# Altium footprint library M2FS FLS Data Formatter 8_14_2012.PcbLib: 27 footprints (part 1 of 2)
Each footprint in its own frame and in the unit in brackets; x right, y up, seen from the top. Pads: shape width x height; smd on the part's side, far side on the other; paste and mask are expansions set on the pad; w line width, h text height; cw(c..) or ccw(c..) is an arc to the next point about the centre after c.
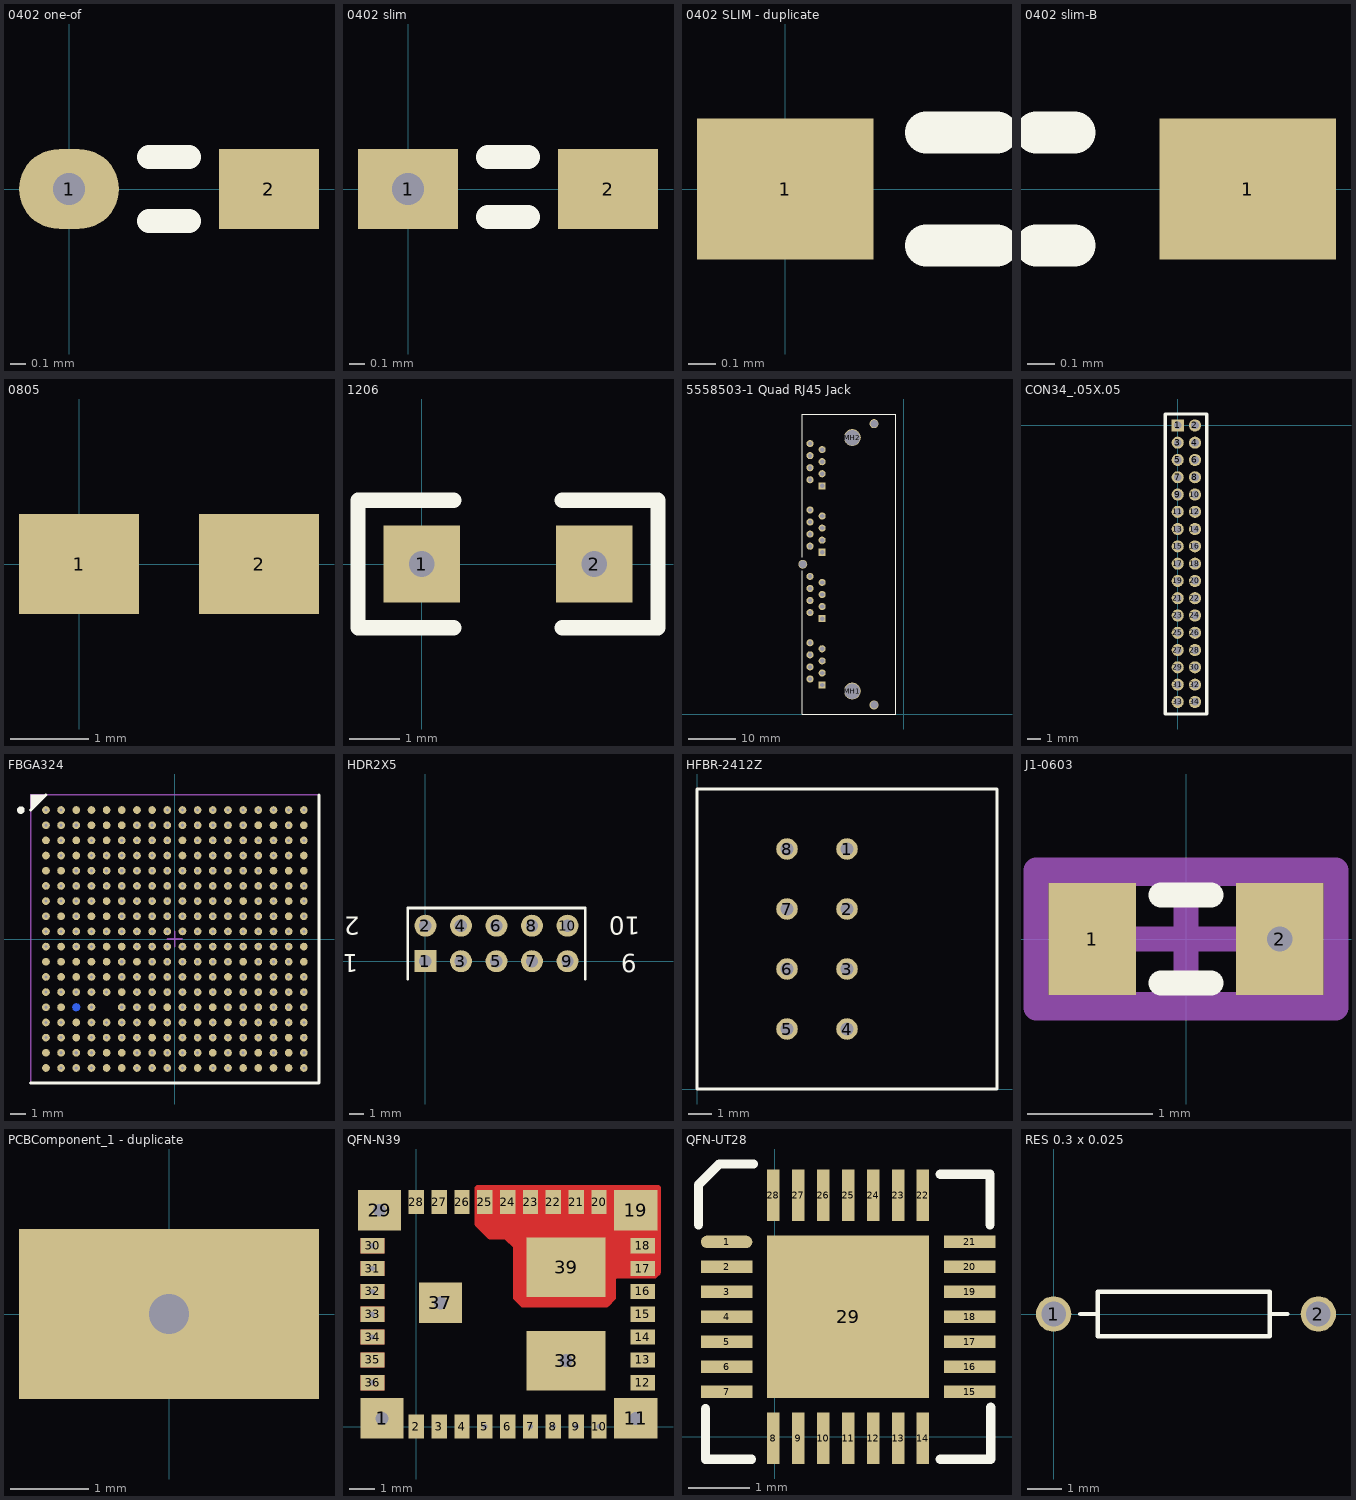
[diagram p0: the footprints below, top view; thin cyan lines are the x and y axes]

## 0402 one-of [mil]
height 66.93
pads (2):
  rrect100% 25x20 / inner round 20 / far side rrect100% 20x20 hole 8: 1(0,0)
  rect 25x20 smd: 2(50,0)
Top Overlay:
  lines w6: 20,-8 30,-8 ; 20,8 30,8

## 0402 slim [mil]
height 2
pads (2):
  rect 25x20 hole 8: 1(0,0)
  rect 25x20 smd: 2(50,0)
Top Overlay:
  lines w6: 20,-7 30,-7 ; 20,8 30,8

## 0402 SLIM - duplicate [mil]
pads (1):
  rect 25x20 smd: 1(0,0)
Top Overlay:
  lines w6: 20,-8 30,-8 ; 20,8 30,8

## 0402 slim-B [mil] "reversed pads"
height 78.74
pads (1):
  rect 25x20 smd: 1(50,0)
Top Overlay:
  lines w6: 20,-8 25.46,-8 ; 20,8 25.46,8

## 0805 [mil]
pads (2):
  rect 60x50 smd: 1(0,0) 2(90,0)

## 1206 [mil]
pads (2):
  rect 60x60 hole 20: 1(0,0) 2(135,0)
Top Overlay:
  lines w12: 25,-50 -50,-50 -50,50 25,50 ; 110,-50 185,-50 185,50 110,50

## 5558503-1 Quad RJ45 Jack [mm]
height 13.64
pads (37):
  rect 1.5x1.5 hole 0.9: A1(-17.145,6.096) B1(-17.145,20.066) C1(-17.145,34.036) D1(-17.145,48.006)
  round 1.5 hole 0.9: A2(-19.685,7.366) A3(-17.145,8.636) A4(-19.685,9.906) A5(-17.145,11.176) A6(-19.685,12.446) A7(-17.145,13.716) A8(-19.685,14.986) B2(-19.685,21.336) B3(-17.145,22.606) B4(-19.685,23.876) B5(-17.145,25.146) B6(-19.685,26.416) B7(-17.145,27.686) B8(-19.685,28.956) C2(-19.685,35.306) C3(-17.145,36.576) C4(-19.685,37.846) C5(-17.145,39.116) C6(-19.685,40.386) C7(-17.145,41.656) C8(-19.685,42.926) D2(-19.685,49.276) D3(-17.145,50.546) D4(-19.685,51.816) D5(-17.145,53.086) D6(-19.685,54.356) D7(-17.145,55.626) D8(-19.685,56.896)
  round 3.556 hole 3.251 unplated: MH1(-10.795,4.826) MH2(-10.795,58.166)
  round 1.88 hole 1.575: MH3(-6.223,1.905) MH4(-6.223,61.087) MH5(-21.209,31.496)
Top Overlay:
  lines w0.2: -21.336,30.099 -21.336,0 -1.676,0 -1.676,63.119 -7.075,63.119 -9.621,63.119 -14.206,63.119 -17.26,63.119 -21.336,63.119 -21.336,33.02

## CON34_.05X.05 [mil]
height 375
pads (34):
  rect 35x35 hole 22: 1(0,0)
  round 35 hole 22: 2(50,0) 3(0,-50) 4(50,-50) 5(0,-100) 6(50,-100) 7(0,-150) 8(50,-150) 9(0,-200) 10(50,-200) 11(0,-250) 12(50,-250) 13(0,-300) 14(50,-300) 15(0,-350) 16(50,-350) 17(0,-400) 18(50,-400) 19(0,-450) 20(50,-450) 21(0,-500) 22(50,-500) 23(0,-550) 24(50,-550) 25(0,-600) 26(50,-600) 27(0,-650) 28(50,-650) 29(0,-700) 30(50,-700) 31(0,-750) 32(50,-750) 33(0,-800) 34(50,-800)
Top Overlay:
  lines w10: -36,-835 -36,33 84,33 84,-835 ; -35,-835 83,-835

## FBGA324 [mil] "BGA, 324-Leads, Body 19x19mm, Pitch 1mm"
height 86.61
pads (324):
  round 20 / inner round 20 / far side round 19.68 hole 8: A1(-334.65,334.65) A2(-295.28,334.65) B10(19.69,295.28) B17(295.28,295.28) C4(-216.54,255.91) C6(-137.8,255.91) C8(-59.05,255.91) C11(59.06,255.91) C12(98.43,255.91) C13(137.8,255.91) C15(216.54,255.91) E3(-255.91,177.17) E11(59.06,177.17) F1(-334.65,137.8) F2(-295.28,137.8) F3(-255.91,137.8) F7(-98.43,137.8) F13(137.8,137.8) G3(-255.91,98.43) G6(-137.8,98.43) G16(255.91,98.43) H3(-255.91,59.06) H6(-137.8,59.06) H8(-59.05,59.06) H15(216.54,59.06) H18(334.65,59.06) J3(-255.91,19.69) J13(137.8,19.69) J14(177.17,19.69) J16(255.91,19.69) J17(295.28,19.69) J18(334.65,19.69) K3(-255.91,-19.68) K13(137.8,-19.68) N3(-255.91,-137.8) N8(-59.05,-137.8) N12(98.43,-137.8) N16(255.91,-137.8) N17(295.28,-137.8) N18(334.65,-137.8) P13(137.8,-177.17) P16(255.91,-177.17) R1(-334.65,-216.54) R5(-177.17,-216.54) R16(255.91,-216.54) R17(295.28,-216.54) R18(334.65,-216.54) T1(-334.65,-255.91) T5(-177.17,-255.91) T6(-137.8,-255.91) T7(-98.43,-255.91) T9(-19.68,-255.91) T10(19.69,-255.91) T11(59.06,-255.91) T12(98.43,-255.91) T14(177.17,-255.91) T15(216.54,-255.91) T16(255.91,-255.91) U2(-295.28,-295.28) U9(-19.68,-295.28) U10(19.69,-295.28) U16(255.91,-295.28) U18(334.65,-295.28) V2(-295.28,-334.65) V10(19.69,-334.65) V12(98.43,-334.65) V18(334.65,-334.65)
  round 20 smd: A3(-255.91,334.65) A4(-216.54,334.65) A5(-177.17,334.65) A6(-137.8,334.65) A7(-98.43,334.65) A8(-59.05,334.65) B4(-216.54,295.28) B5(-177.17,295.28) B6(-137.8,295.28) B15(216.54,295.28) B16(255.91,295.28) B18(334.65,295.28) C1(-334.65,255.91) C3(-255.91,255.91) C5(-177.17,255.91) C10(19.69,255.91) D1(-334.65,216.54) D3(-255.91,216.54) D10(19.69,216.54) D18(334.65,216.54) E1(-334.65,177.17) E2(-295.28,177.17) E16(255.91,177.17) E17(295.28,177.17) E18(334.65,177.17) G5(-177.17,98.43) G14(177.17,98.43) G17(295.28,98.43) H2(-295.28,59.06) H4(-216.54,59.06) H17(295.28,59.06) K5(-177.17,-19.68) K6(-137.8,-19.68) K18(334.65,-19.68) L1(-334.65,-59.06) L2(-295.28,-59.06) L3(-255.91,-59.06) L4(-216.54,-59.06) L5(-177.17,-59.06) L7(-98.43,-59.06) L14(177.17,-59.06) L18(334.65,-59.06) M2(-295.28,-98.43) M3(-255.91,-98.43) M5(-177.17,-98.43) M13(137.8,-98.43) N6(-137.8,-137.8) P2(-295.28,-177.17) P12(98.43,-177.17) R3(-255.91,-216.54) R8(-59.05,-216.54) R11(59.06,-216.54) R13(137.8,-216.54) T3(-255.91,-255.91) T8(-59.05,-255.91) T17(295.28,-255.91) U1(-334.65,-295.28) U5(-177.17,-295.28) U6(-137.8,-295.28) U12(98.43,-295.28) U15(216.54,-295.28) U17(295.28,-295.28) V1(-334.65,-334.65) V5(-177.17,-334.65) V6(-137.8,-334.65) V11(59.06,-334.65) V14(177.17,-334.65) V15(216.54,-334.65) V16(255.91,-334.65)
  round 20 hole 8: A9(-19.68,334.65) A10(19.69,334.65) A11(59.06,334.65) A12(98.43,334.65) A13(137.8,334.65) A14(177.17,334.65) A15(216.54,334.65) A16(255.91,334.65) A17(295.28,334.65) A18(334.65,334.65) B1(-334.65,295.28) B2(-295.28,295.28) B3(-255.91,295.28) B7(-98.43,295.28) B8(-59.05,295.28) B9(-19.68,295.28) B11(59.06,295.28) B12(98.43,295.28) B13(137.8,295.28) B14(177.17,295.28) C2(-295.28,255.91) C7(-98.43,255.91) C9(-19.68,255.91) C14(177.17,255.91) C16(255.91,255.91) C17(295.28,255.91) C18(334.65,255.91) D2(-295.28,216.54) D5(-177.17,216.54) D7(-98.43,216.54) D9(-19.68,216.54) D12(98.43,216.54) D14(177.17,216.54) D16(255.91,216.54) E4(-216.54,177.17) E5(-177.17,177.17) E6(-137.8,177.17) E7(-98.43,177.17) E8(-59.05,177.17) E9(-19.68,177.17) E10(19.69,177.17) E12(98.43,177.17) E13(137.8,177.17) E14(177.17,177.17) F5(-177.17,137.8) F8(-59.05,137.8) F9(-19.68,137.8) F11(59.06,137.8) F12(98.43,137.8) F15(216.54,137.8) F16(255.91,137.8) F17(295.28,137.8) F18(334.65,137.8) G1(-334.65,98.43) G2(-295.28,98.43) G9(-19.68,98.43) G12(98.43,98.43) G13(137.8,98.43) G15(216.54,98.43) H1(-334.65,59.06) H9(-19.68,59.06) H10(19.69,59.06) H11(59.06,59.06) H12(98.43,59.06) H13(137.8,59.06) H16(255.91,59.06) J1(-334.65,19.69) J2(-295.28,19.69) J5(-177.17,19.69) J6(-137.8,19.69) J8(-59.05,19.69) J9(-19.68,19.69) J10(19.69,19.69) J11(59.06,19.69) J15(216.54,19.69) K1(-334.65,-19.68) K8(-59.05,-19.68) K9(-19.68,-19.68) K10(19.69,-19.68) K11(59.06,-19.68) K15(216.54,-19.68) K16(255.91,-19.68) L6(-137.8,-59.06) L8(-59.05,-59.06) L9(-19.68,-59.06) L10(19.69,-59.06) L11(59.06,-59.06) L16(255.91,-59.06) M1(-334.65,-98.43) M7(-98.43,-98.43) M10(19.69,-98.43) M14(177.17,-98.43) M15(216.54,-98.43) M17(295.28,-98.43) N1(-334.65,-137.8) N2(-295.28,-137.8) N7(-98.43,-137.8) N10(19.69,-137.8) N11(59.06,-137.8) N13(137.8,-137.8) N14(177.17,-137.8) N15(216.54,-137.8) P1(-334.65,-177.17) P4(-216.54,-177.17) P6(-137.8,-177.17) P7(-98.43,-177.17) P8(-59.05,-177.17) P10(19.69,-177.17) P14(177.17,-177.17) P15(216.54,-177.17) P17(295.28,-177.17) P18(334.65,-177.17) R2(-295.28,-216.54) R4(-216.54,-216.54) R15(216.54,-216.54) T4(-216.54,-255.91) T18(334.65,-255.91) U3(-255.91,-295.28) U4(-216.54,-295.28) U7(-98.43,-295.28) U8(-59.05,-295.28) V3(-255.91,-334.65) V4(-216.54,-334.65) V7(-98.43,-334.65) V8(-59.05,-334.65) V9(-19.68,-334.65) V13(137.8,-334.65)
  round 20 / inner round 20 / far side rect 20x25 hole 8: D4(-216.54,216.54) D6(-137.8,216.54) D8(-59.05,216.54) D11(59.06,216.54) D13(137.8,216.54) D15(216.54,216.54) M6(-137.8,-98.43) M8(-59.05,-98.43) M12(98.43,-98.43) R6(-137.8,-216.54) R7(-98.43,-216.54) R9(-19.68,-216.54) R10(19.69,-216.54) R12(98.43,-216.54)
  round 20 / inner round 19.68 / far side rect 25x20 hole 8: D17(295.28,216.54) E15(216.54,177.17) F14(177.17,137.8) G18(334.65,98.43) H14(177.17,59.06) K17(295.28,-19.68) L15(216.54,-59.06) P11(59.06,-177.17)
  round 20 / inner round 20 / far side rect 25x20 hole 8: F4(-216.54,137.8) F6(-137.8,137.8) G4(-216.54,98.43) G7(-98.43,98.43) G10(19.69,98.43) H7(-98.43,59.06) J4(-216.54,19.69) J7(-98.43,19.69) J12(98.43,19.69) K4(-216.54,-19.68) K7(-98.43,-19.68) K12(98.43,-19.68) L12(98.43,-59.06) M4(-216.54,-98.43) M11(59.06,-98.43) N4(-216.54,-137.8) N9(-19.68,-137.8) R14(177.17,-216.54) T2(-295.28,-255.91) T13(137.8,-255.91)
  round 20 / inner round 20 / far side rect 20x20 hole 8: F10(19.69,137.8)
  round 20 / inner round 20 / far side round 0 hole 8: G8(-59.05,98.43) M9(-19.68,-98.43) M16(255.91,-98.43)
  round 20 / inner round 20 / far side rect 20x22 hole 8: G11(59.06,98.43)
  round 20 all layers, no hole: H5(-177.17,59.06) K2(-295.28,-19.68) V17(295.28,-334.65)
  round 20 / inner round 19.68 / far side round 20 hole 8: K14(177.17,-19.68)
  round 20 / inner round 19.68 / far side rect 20x25 hole 8: L13(137.8,-59.06) N5(-177.17,-137.8) U11(59.06,-295.28) U13(137.8,-295.28) U14(177.17,-295.28)
  round 20 / inner round 20 / far side rect 25x19 hole 8: L17(295.28,-59.06)
  round 20 / inner round 20 / far side round 18 hole 8: M18(334.65,-98.43)
  round 20 smd far side: P3(-255.91,-177.17)
  round 20 on Top Paste: P5(-177.17,-177.17)
  round 20 smd mask-10: P9(-19.68,-177.17)
Top Overlay:
  circle w9.84: c-399.61,334.65 r4.92
  region: -334.65,374.02 -374.02,334.65 -374.02,374.02
  lines w7.87: -374.02,-374.02 374.02,-374.02 374.02,374.02 ; -374.02,334.65 -334.65,374.02
Mechanical 13:
  lines w3.94: -374.02,-374.02 374.02,-374.02 374.02,374.02 -374.02,374.02 -374.02,-374.02
Mechanical 15:
  lines w3.94: -19.68,0 19.69,0 ; 0,-19.68 0,19.69
3D body: height 86.61, standoff 0, extent -376.03,-376.35 372,371.69

## HDR2X5 [mil]
pads (10):
  rect 62x62 hole 35: 1(0,0)
  round 62 hole 35: 2(0,100) 3(100,0) 4(100,100) 5(200,0) 6(200,100) 7(300,0) 8(300,100) 9(400,0) 10(400,100)
Top Overlay:
  lines w8: -50,-50 -50,150 450,150 450,-50
  text "2" at -185,125 h50
  text "1" at -190,20 h50
  text "9" at 595,20 h50
  text "10" at 605,125 h50

## HFBR-2412Z [mil] "Fiber Receiver"
height 500
pads (8):
  round 36 hole 22: 1(250,400) 2(250,300) 3(250,200) 4(250,100) 5(150,100) 6(150,200) 7(150,300) 8(150,400)
Top Overlay:
  lines w5: 0,0 0,500 500,500 500,0 0,0
Bottom Overlay:
  text "GND" at 195,320 h15
  text "DATA" at 195,225 h15
  text "GND" at 295,220 h15
  text "VCC" at 295,315 h15

## J1-0603 [mm] "Chip Resistor, Body 1.6x0.8mm, IPC High Density"
height 0.9
pads (2):
  rect 0.7x0.9 smd: 1(-0.75,0)
  rect 0.7x0.9 hole 0.203: 2(0.75,0)
Top Overlay:
  lines w0.2: -0.2,-0.35 0.2,-0.35 ; -0.2,0.35 0.2,0.35
Mechanical 13:
  lines w0.1: -0.85,-0.475 0.85,-0.475 0.85,0.475 -0.85,0.475 -0.85,-0.475
Mechanical 15:
  lines w0.203: -0.475,0 0.475,0 ; 0,-0.475 0,0.475 ; -1.2,-0.55 1.2,-0.55 1.2,0.55 -1.2,0.55 -1.2,-0.55
3D body: height 0.9, standoff 0, extent -0.85,-0.475 0.85,0.475

## PCBComponent_1 - duplicate [mil]
pads (1):
  rect 150x85 hole 20: ""(0,0)

## QFN-N39 [mm] "TI TPS84410 Voltage Regulator"
height 2
pads (39):
  rect 1.7x1.6 hole 0.508: 1(-1.35,0.325) 11(8.65,0.325) 29(-1.45,8.525) 37(0.95,4.875)
  rect 0.6x0.95 smd: 2(0,0) 3(0.9,0) 4(1.8,0) 6(3.6,0) 20(7.2,8.85) 21(6.3,8.85) 22(5.4,8.85) 23(4.5,8.85) 24(3.6,8.85) 25(2.7,8.85) 26(1.8,8.85) 27(0.9,8.85) 28(0,8.85)
  rect 0.6x0.95 hole 0.203: 5(2.7,0) 7(4.5,0) 8(5.4,0) 9(6.3,0) 10(7.2,0)
  rect 0.95x0.6 smd: 12(8.925,1.725) 13(8.925,2.625) 14(8.925,3.525) 15(8.925,4.425) 16(8.925,5.325) 17(8.925,6.225) 18(8.925,7.125) 35(-1.725,2.625)
  rect 1.7x1.6 smd: 19(8.65,8.525)
  rect 0.95x0.6 hole 0.203: 30(-1.725,7.125) 31(-1.725,6.225) 32(-1.725,5.325) 33(-1.725,4.425) 34(-1.725,3.525) 36(-1.725,1.725)
  rect 3.1x2.35 hole 0.508: 38(5.9,2.6)
  rect 3.1x2.35 smd: 39(5.9,6.275)
Top Layer:
  rectangle: 2.54,7.747 2.794,8.255
  rectangle: 2.667,7.62 3.175,8.128
  rectangle: 4.572,5.969 9.398,7.747
  rectangle: 4.064,4.953 7.62,5.207
  rectangle: 3.937,5.08 7.747,6.35
  rectangle: 3.683,7.239 4.064,7.747
  rectangle: 3.937,6.223 4.826,7.747
  rectangle: 2.794,7.62 3.175,7.747
  rectangle: 2.413,8.001 3.175,8.382
  rectangle: 2.921,7.493 9.525,9.398
  region: -1.25,7.425 -2.2,7.425 -2.2,6.825 -1.25,6.825
  region: -1.25,5.625 -2.2,5.625 -2.2,5.025 -1.25,5.025
  region: -1.25,6.525 -2.2,6.525 -2.2,5.925 -1.25,5.925
  region: -1.25,3.825 -2.2,3.825 -2.2,3.225 -1.25,3.225
  region: -1.25,4.725 -2.2,4.725 -2.2,4.125 -1.25,4.125
  region: -1.25,2.925 -2.2,2.925 -2.2,2.325 -1.25,2.325
  region: -1.25,2.025 -2.2,2.025 -2.2,1.425 -1.25,1.425
  lines w0.254: 2.413,8.001 2.921,7.493 3.556,7.493 3.937,7.112 3.937,5.08 4.191,4.826 7.493,4.826 7.747,5.08 7.747,5.842 7.874,5.969 9.398,5.969 9.525,6.096 9.525,9.398 2.413,9.398 2.413,8.001

## QFN-UT28 [mil]
pads (29):
  oval 33x8 smd: 1(-31,125)
  rect 33x8 smd: 2(-31,109) 3(-31,93) 4(-31,77) 5(-31,61) 6(-31,45) 7(-31,29) 15(125,29) 16(125,45) 17(125,61) 18(125,77) 19(125,93) 20(125,109) 21(125,125)
  rect 8x33 smd: 8(-1,-1) 9(15,-1) 10(31,-1) 11(47,-1) 12(63,-1) 13(79,-1) 14(95,-1) 22(95,155) 23(79,155) 24(63,155) 25(47,155) 26(31,155) 27(15,155) 28(-1,155)
  rect 104x104 smd: 29(47,77)
Top Overlay:
  lines w6: -49,136 -49,161.75 -35.75,175 -13.75,175 ; -44.5,18 -44.5,-14.5 -15,-14.5 ; 106,-14.5 138.5,-14.5 138.5,19 ; 106,168.5 138,168.5 138,136

## RES 0.3 x 0.025 [mil] "AXIAL RESISTOR"
height 91
pads (2):
  round 40 hole 28: 1(0,0) 2(300,0)
Top Overlay:
  lines w5: 30,0 50,0 ; 245,0 265,0 ; 50,0 50,25 245,25 245,-25 50,-25 50,0